# Altium integrated library OS102011MS2QN1.IntLib: 1 symbol
Pins are listed as number, name and electrical type; pins without a type are passive.

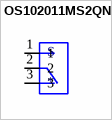
[diagram p0: symbol OS102011MS2QN1]

## OS102011MS2QN1
designator S
Slide Switch SPDT Through Hole; MF: C&K; MP: OS102011MS2QN1; Price: None; Availability: Unavailable; Package: None; SnapEDA_Link: https://www.snapeda.com/parts/OS102011MS2QN1/C%26K/view-part/391519/?ref=snap; Value: *
footprint SW_OS102011MS2QN1
pins: 1, 2, 3